# Altium footprint library aiskylab-07IC-07Logic.PcbLib: 4 footprints
Each footprint in its own frame and in the unit in brackets; x right, y up, seen from the top. Pads: shape width x height; smd on the part's side, far side on the other; paste and mask are expansions set on the pad; w line width, h text height; cw(c..) or ccw(c..) is an arc to the next point about the centre after c.
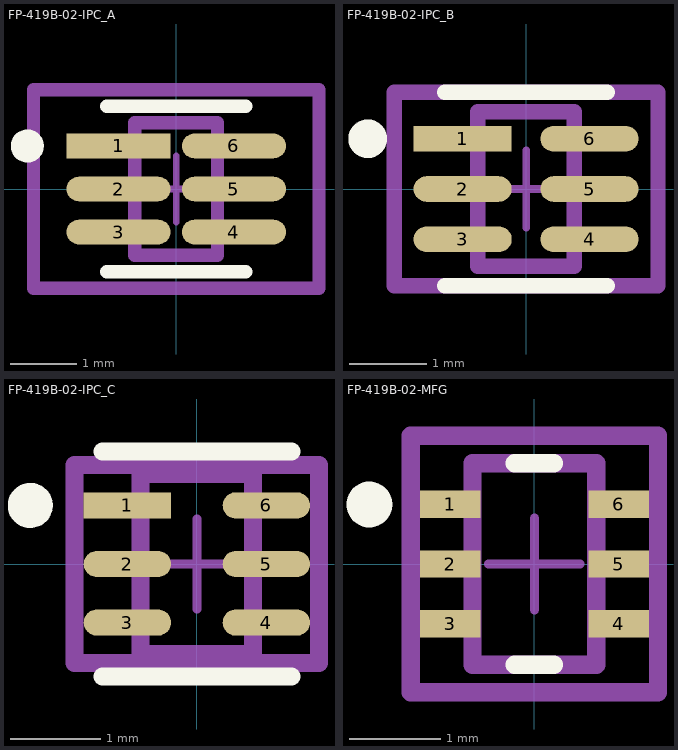
[diagram p0: the footprints below, top view; thin cyan lines are the x and y axes]

## FP-419B-02-IPC_A [mm]
pads (6):
  rect 1.57x0.372 smd paste+0 mask+0: 1(-0.871,0.65)
  rrect100% 1.57x0.372 smd paste+0 mask+0: 2(-0.871,0) 3(-0.871,-0.65) 4(0.871,-0.65) 5(0.871,0) 6(0.871,0.65)
Top Overlay:
  circle w0.25: c-2.25,0.65 r0.125
  lines w0.2: -1.05,-1.25 1.05,-1.25 ; -1.05,1.25 1.05,1.25
Top Designator:
  text ".Designator" at 0,0.188 h1
Top Assembly:
  lines w0.2: -2.156,-1.5 -2.156,1.5 2.156,1.5 2.156,-1.5 -2.156,-1.5
Top Component Center:
  lines w0.1: -0.5,0 0.5,0 ; 0,-0.5 0,0.5
Top Component Outline:
  lines w0.2: -2.156,-1.5 -2.156,1.5 2.156,1.5 2.156,-1.5 -2.156,-1.5
Top 3D Body:
  lines w0.2: -0.625,-1 -0.625,1 0.625,1 0.625,-1 -0.625,-1
3D body "Trans_ON_Semiconductor_FDG6316P_eec.STEP": height 1.1, standoff 0, extent -1.05,-1 1.05,1

## FP-419B-02-IPC_B [mm]
pads (6):
  rect 1.27x0.332 smd paste+0 mask+0: 1(-0.821,0.65)
  rrect100% 1.27x0.332 smd paste+0 mask+0: 2(-0.821,0) 3(-0.821,-0.65) 4(0.821,-0.65) 5(0.821,0) 6(0.821,0.65)
Top Overlay:
  circle w0.25: c-2.05,0.65 r0.125
  lines w0.2: -1.05,-1.25 1.05,-1.25 ; -1.05,1.25 1.05,1.25
Top Designator:
  text ".Designator" at 0,0.188 h1
Top Assembly:
  lines w0.2: -1.706,-1.25 -1.706,1.25 1.706,1.25 1.706,-1.25 -1.706,-1.25
Top Component Center:
  lines w0.1: -0.5,0 0.5,0 ; 0,-0.5 0,0.5
Top Component Outline:
  lines w0.2: -1.706,-1.25 -1.706,1.25 1.706,1.25 1.706,-1.25 -1.706,-1.25
Top 3D Body:
  lines w0.2: -0.625,-1 -0.625,1 0.625,1 0.625,-1 -0.625,-1
3D body "Trans_ON_Semiconductor_FDG6316P_eec.STEP": height 1.1, standoff 0, extent -1.05,-1 1.05,1

## FP-419B-02-IPC_C [mm]
pads (6):
  rect 0.97x0.292 smd paste+0 mask+0: 1(-0.771,0.65)
  rrect100% 0.97x0.292 smd paste+0 mask+0: 2(-0.771,0) 3(-0.771,-0.65) 4(0.771,-0.65) 5(0.771,0) 6(0.771,0.65)
Top Overlay:
  circle w0.25: c-1.85,0.65 r0.125
  lines w0.2: -1.05,-1.25 1.05,-1.25 ; -1.05,1.25 1.05,1.25
Top Designator:
  text ".Designator" at 0,0.188 h1
Top Assembly:
  lines w0.2: -1.356,-1.1 -1.356,1.1 1.356,1.1 1.356,-1.1 -1.356,-1.1
Top Component Center:
  lines w0.1: -0.5,0 0.5,0 ; 0,-0.5 0,0.5
Top Component Outline:
  lines w0.2: -1.356,-1.1 -1.356,1.1 1.356,1.1 1.356,-1.1 -1.356,-1.1
Top 3D Body:
  lines w0.2: -0.625,-1 -0.625,1 0.625,1 0.625,-1 -0.625,-1
3D body "Trans_ON_Semiconductor_FDG6316P_eec.STEP": height 1.1, standoff 0, extent -1.05,-1 1.05,1

## FP-419B-02-MFG [mm]
pads (6):
  rect 0.66x0.3 smd paste+0 mask+0: 1(-0.92,0.65) 2(-0.92,0) 3(-0.92,-0.65) 4(0.92,-0.65) 5(0.92,0) 6(0.92,0.65)
Top Overlay:
  circle w0.25: c-1.8,0.65 r0.125
  lines w0.2: -0.215,-1.1 0.215,-1.1 ; -0.215,1.1 0.215,1.1
Top Designator:
  lines w0.2: -1.35,-1.4 1.35,-1.4 1.35,1.4 -1.35,1.4 -1.35,-1.4
  text ".Designator" at 0,0.188 h1
Top Component Center:
  lines w0.1: -0.5,0 0.5,0 ; 0,-0.5 0,0.5
Top Component Outline:
  lines w0.2: -1.35,-1.4 1.35,-1.4 1.35,1.4 -1.35,1.4 -1.35,-1.4
Top 3D Body:
  lines w0.2: -0.675,-1.1 0.675,-1.1 0.675,1.1 -0.675,1.1 -0.675,-1.1
3D body "Trans_ON_Semiconductor_FDG6316P_eec.STEP": height 1.1, standoff 0, extent -1.05,-1 1.05,1